# Altium footprint library unwired_footprints.PcbLib: 11 footprints
Each footprint in its own frame and in the unit in brackets; x right, y up, seen from the top. Pads: shape width x height; smd on the part's side, far side on the other; paste and mask are expansions set on the pad; w line width, h text height; cw(c..) or ccw(c..) is an arc to the next point about the centre after c.
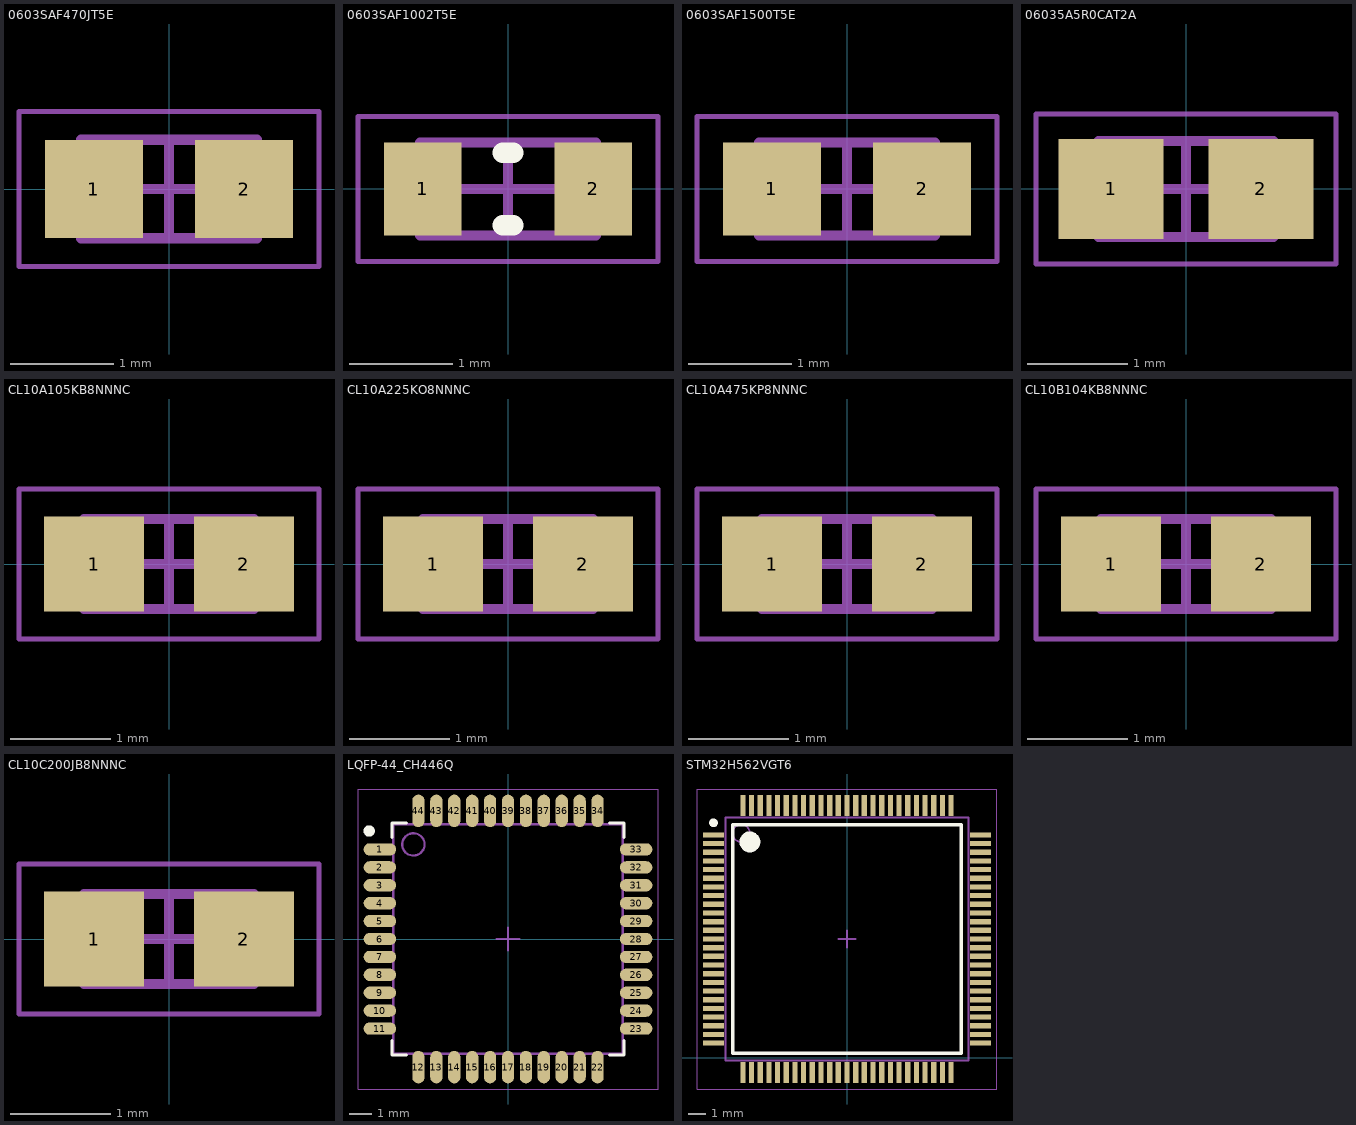
[diagram p0: the footprints below, top view; thin cyan lines are the x and y axes]

## 0603SAF470JT5E [mm] "Resistor SMD 0603 47ohm"
height 0.55
pads (2):
  rect 0.95x0.95 smd: 1(-0.725,0) 2(0.725,0)
Mechanical 13:
  lines w0.1: -0.85,-0.475 -0.85,0.475 0.85,0.475 0.85,-0.475 -0.85,-0.475
Mechanical 15:
  lines w0.05: -1.45,-0.75 -1.45,0.75 1.45,0.75 1.45,-0.75 -1.45,-0.75
  lines w0.1: -0.475,0 0.475,0 ; 0,-0.475 0,0.475
3D body "0603SAF470JT5E.step": height 0.55, standoff 0, extent -0.85,-0.475 0.85,0.475

## 0603SAF1002T5E [mm] "Chip Resistor, 2-Leads, Body 1,60x0,80mm, IPC Medium Density"
height 0.55
pads (2):
  rect 0.75x0.9 smd: 1(-0.825,0) 2(0.825,0)
Top Overlay:
  lines w0.2: -0.05,-0.35 0.05,-0.35 ; -0.05,0.35 0.05,0.35
Mechanical 13:
  lines w0.1: -0.85,-0.45 -0.85,0.45 0.85,0.45 0.85,-0.45 -0.85,-0.45
Mechanical 15:
  lines w0.05: -1.45,-0.7 -1.45,0.7 1.45,0.7 1.45,-0.7 -1.45,-0.7
  lines w0.1: -0.45,0 0.45,0 ; 0,-0.45 0,0.45
3D body "0603SAF1002T5E.step": height 0.55, standoff 0, extent -0.85,-0.45 0.85,0.45

## 0603SAF1500T5E [mm] "Resistor SMD 0603 150ohm"
height 0.55
pads (2):
  rect 0.95x0.9 smd: 1(-0.725,0) 2(0.725,0)
Mechanical 13:
  lines w0.1: -0.85,-0.45 0.85,-0.45 0.85,0.45 -0.85,0.45 -0.85,-0.45
Mechanical 15:
  lines w0.05: -1.45,-0.7 1.45,-0.7 1.45,0.7 -1.45,0.7 -1.45,-0.7
  lines w0.1: -0.45,0 0.45,0 ; 0,-0.45 0,0.45
3D body "0603SAF1500T5E.step": height 0.55, standoff 0, extent -0.85,-0.45 0.85,0.45

## 06035A5R0CAT2A [mm] "Capacitor SMD 0603 5p"
height 0.8
pads (2):
  rect 1.05x1 smd: 1(-0.75,0) 2(0.75,0)
Mechanical 13:
  lines w0.1: -0.875,-0.48 -0.875,0.48 0.875,0.48 0.875,-0.48 -0.875,-0.48
Mechanical 15:
  lines w0.05: -1.5,-0.75 -1.5,0.75 1.5,0.75 1.5,-0.75 -1.5,-0.75
  lines w0.1: -0.48,0 0.48,0 ; 0,-0.48 0,0.48
3D body "06035A5R0CAT2A.step": height 0.8, standoff 0, extent -0.875,-0.48 0.875,0.48

## CL10A105KB8NNNC [mm] "Capacitor SMD 0603"
height 0.9
pads (2):
  rect 1x0.95 smd: 1(-0.75,0) 2(0.75,0)
Mechanical 13:
  lines w0.1: -0.85,-0.45 0.85,-0.45 0.85,0.45 -0.85,0.45 -0.85,-0.45
Mechanical 15:
  lines w0.05: -1.5,-0.75 1.5,-0.75 1.5,0.75 -1.5,0.75 -1.5,-0.75
  lines w0.1: -0.45,0 0.45,0 ; 0,-0.45 0,0.45
3D body "CL10A105KB8NNNC.step": height 0.9, standoff 0, extent -0.85,-0.45 0.85,0.45

## CL10A225KO8NNNC [mm] "Capacitor SMD 0603 2.2u"
height 0.9
pads (2):
  rect 1x0.95 smd: 1(-0.75,0) 2(0.75,0)
Mechanical 13:
  lines w0.1: -0.85,-0.45 -0.85,0.45 0.85,0.45 0.85,-0.45 -0.85,-0.45
Mechanical 15:
  lines w0.05: -1.5,-0.75 -1.5,0.75 1.5,0.75 1.5,-0.75 -1.5,-0.75
  lines w0.1: -0.45,0 0.45,0 ; 0,-0.45 0,0.45
3D body "CL10A225KO8NNNC.step": height 0.9, standoff 0, extent -0.85,-0.45 0.85,0.45

## CL10A475KP8NNNC [mm] "Capacitor SMD 0603 4.7u"
height 0.9
pads (2):
  rect 1x0.95 smd: 1(-0.75,0) 2(0.75,0)
Mechanical 13:
  lines w0.1: -0.85,-0.45 -0.85,0.45 0.85,0.45 0.85,-0.45 -0.85,-0.45
Mechanical 15:
  lines w0.05: -1.5,-0.75 -1.5,0.75 1.5,0.75 1.5,-0.75 -1.5,-0.75
  lines w0.1: -0.45,0 0.45,0 ; 0,-0.45 0,0.45
3D body "CL10A475KP8NNNC.step": height 0.9, standoff 0, extent -0.85,-0.45 0.85,0.45

## CL10B104KB8NNNC [mm] "Capacitor SMD 0603 100n"
height 0.9
pads (2):
  rect 1x0.95 smd: 1(-0.75,0) 2(0.75,0)
Mechanical 13:
  lines w0.1: -0.85,-0.45 -0.85,0.45 0.85,0.45 0.85,-0.45 -0.85,-0.45
Mechanical 15:
  lines w0.05: -1.5,-0.75 -1.5,0.75 1.5,0.75 1.5,-0.75 -1.5,-0.75
  lines w0.1: -0.45,0 0.45,0 ; 0,-0.45 0,0.45
3D body "CL10B104KB8NNNC.step": height 0.9, standoff 0, extent -0.85,-0.45 0.85,0.45

## CL10C200JB8NNNC [mm] "Capacitor SMD 0603 20p"
height 0.9
pads (2):
  rect 1x0.95 smd: 1(-0.75,0) 2(0.75,0)
Mechanical 13:
  lines w0.1: -0.85,-0.45 -0.85,0.45 0.85,0.45 0.85,-0.45 -0.85,-0.45
Mechanical 15:
  lines w0.05: -1.5,-0.75 -1.5,0.75 1.5,0.75 1.5,-0.75 -1.5,-0.75
  lines w0.1: -0.45,0 0.45,0 ; 0,-0.45 0,0.45
3D body "CL10C200JB8NNNC.step": height 0.9, standoff 0, extent -0.85,-0.45 0.85,0.45

## LQFP-44_CH446Q [mm] "TQFP, 44-Leads, Body 10,00x10,00mm, Pitch 0,80mm, IPC Medium Density"
height 1.6
pads (44):
  oval 1.45x0.55 smd: 1(-5.725,4) 2(-5.725,3.2) 3(-5.725,2.4) 4(-5.725,1.6) 5(-5.725,0.8) 6(-5.725,0) 7(-5.725,-0.8) 8(-5.725,-1.6) 9(-5.725,-2.4) 10(-5.725,-3.2) 11(-5.725,-4) 23(5.725,-4) 24(5.725,-3.2) 25(5.725,-2.4) 26(5.725,-1.6) 27(5.725,-0.8) 28(5.725,0) 29(5.725,0.8) 30(5.725,1.6) 31(5.725,2.4) 32(5.725,3.2) 33(5.725,4)
  oval 0.55x1.45 smd: 12(-4,-5.725) 13(-3.2,-5.725) 14(-2.4,-5.725) 15(-1.6,-5.725) 16(-0.8,-5.725) 17(0,-5.725) 18(0.8,-5.725) 19(1.6,-5.725) 20(2.4,-5.725) 21(3.2,-5.725) 22(4,-5.725) 34(4,5.725) 35(3.2,5.725) 36(2.4,5.725) 37(1.6,5.725) 38(0.8,5.725) 39(0,5.725) 40(-0.8,5.725) 41(-1.6,5.725) 42(-2.4,5.725) 43(-3.2,5.725) 44(-4,5.725)
Top Overlay:
  circle w0.25: c-6.2,4.825 r0.125
  lines w0.127: -5.189,-4.538 -5.189,-5.189 -4.538,-5.189 ; -5.189,4.538 -5.189,5.189 -4.538,5.189 ; 4.538,-5.189 5.189,-5.189 5.189,-4.538 ; 4.538,5.189 5.189,5.189 5.189,4.538
Top Courtyard:
  lines w0.05: -6.7,-6.7 6.7,-6.7 6.7,6.7 -6.7,6.7 -6.7,-6.7
Top Assembly:
  circle w0.1: c-4.225,4.225 r0.5
  lines w0.1: -5.125,-5.125 5.125,-5.125 5.125,5.125 -5.125,5.125 -5.125,-5.125
Top Designator:
  text ".Designator" at 0,0.187 h1
Top Component Center:
  lines w0.1: -0.5,0 0.5,0 ; 0,-0.5 0,0.5
3D body: height 1.6, standoff 0.05, extent -5,-5 5,5

## STM32H562VGT6 [mm] "Microcontroller STM32"
pads (100):
  rect 1.2x0.3 smd: 1(-7.7,12.858) 2(-7.7,12.358) 3(-7.7,11.858) 4(-7.7,11.358) 5(-7.7,10.858) 6(-7.7,10.358) 7(-7.7,9.858) 8(-7.7,9.358) 9(-7.7,8.858) 10(-7.7,8.358) 11(-7.7,7.858) 12(-7.7,7.358) 13(-7.7,6.858) 14(-7.7,6.358) 15(-7.7,5.858) 16(-7.7,5.358) 17(-7.7,4.858) 18(-7.7,4.358) 19(-7.7,3.858) 20(-7.7,3.358) 21(-7.7,2.858) 22(-7.7,2.358) 23(-7.7,1.858) 24(-7.7,1.358) 25(-7.7,0.858) 51(7.7,0.858) 52(7.7,1.358) 53(7.7,1.858) 54(7.7,2.358) 55(7.7,2.858) 56(7.7,3.358) 57(7.7,3.858) 58(7.7,4.358) 59(7.7,4.858) 60(7.7,5.358) 61(7.7,5.858) 62(7.7,6.358) 63(7.7,6.858) 64(7.7,7.358) 65(7.7,7.858) 66(7.7,8.358) 67(7.7,8.858) 68(7.7,9.358) 69(7.7,9.858) 70(7.7,10.358) 71(7.7,10.858) 72(7.7,11.358) 73(7.7,11.858) 74(7.7,12.358) 75(7.7,12.858)
  rect 0.3x1.2 smd: 26(-6,-0.842) 27(-5.5,-0.842) 28(-5,-0.842) 29(-4.5,-0.842) 30(-4,-0.842) 31(-3.5,-0.842) 32(-3,-0.842) 33(-2.5,-0.842) 34(-2,-0.842) 35(-1.5,-0.842) 36(-1,-0.842) 37(-0.5,-0.842) 38(0,-0.842) 39(0.5,-0.842) 40(1,-0.842) 41(1.5,-0.842) 42(2,-0.842) 43(2.5,-0.842) 44(3,-0.842) 45(3.5,-0.842) 46(4,-0.842) 47(4.5,-0.842) 48(5,-0.842) 49(5.5,-0.842) 50(6,-0.842) 76(6,14.558) 77(5.5,14.558) 78(5,14.558) 79(4.5,14.558) 80(4,14.558) 81(3.5,14.558) 82(3,14.558) 83(2.5,14.558) 84(2,14.558) 85(1.5,14.558) 86(1,14.558) 87(0.5,14.558) 88(0,14.558) 89(-0.5,14.558) 90(-1,14.558) 91(-1.5,14.558) 92(-2,14.558) 93(-2.5,14.558) 94(-3,14.558) 95(-3.5,14.558) 96(-4,14.558) 97(-4.5,14.558) 98(-5,14.558) 99(-5.5,14.558) 100(-6,14.558)
Top Overlay:
  circle w0.25: c-7.7,13.558 r0.125
  circle w0.6: c-5.6,12.458 r0.3
  lines w0.2: -6.6,0.258 -6.6,13.458 6.6,13.458 6.6,0.258 -6.6,0.258
Mechanical 13:
  circle w0.1: c-6.1,12.958 r0.5
  lines w0.1: -7,-0.142 -7,13.858 7,13.858 7,-0.142 -7,-0.142
Mechanical 15:
  lines w0.05: -8.65,-1.792 -8.65,15.508 8.65,15.508 8.65,-1.792 -8.65,-1.792
  lines w0.1: -0.5,6.858 0.5,6.858 ; 0,6.358 0,7.358
3D body: height 1.6, standoff 0.05, extent -7,-0.142 7,13.858